# EAGLE library part MAX2634 (library IC_Linear)
Low-Noise Automotive (RKE) Amplifier Reference Datasheet <https://datasheets.maximintegrated.com/en/ds/MAX2634.pdf>
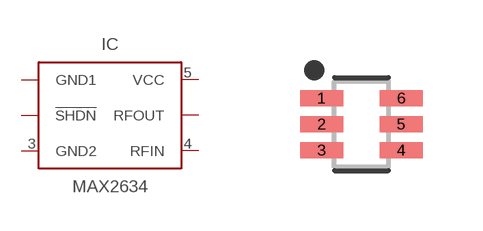
[diagram p8: symbol with the pads of SOT65P217X110-6N; footprint SOT65P217X110-6N]

Designator prefix IC

## MAX2634 (CATEGORY: Amplifier; DESCRIPTION: Low-Noise Automotive Amplifier; MANUFACTURER: Maxim Integrated; MPN: MAX2634AXT+T; OPERATING_TEMP: -40°C to +125°C; PART_STATUS: Active; ROHS_COMPLIANT: ROHS3 Compliant; SERIES: MAX2634; SUB-CATEGORY: RF; VALUE: MAX2634)  [SOT65P217X110-6N]
1  GND1  in
2  !SHDN  in
3  GND2  pas
4  RFIN  pas
5  VCC
6  RFOUT  out

## Footprint SOT65P217X110-6N (pad centres in mm)
6-SOT23, 0.65 mm pitch, 2.18 mm span, 2.00 X 1.25 X 1.10 mm body 6-pin SOT23 package with 0.65 mm pitch, 2.18 mm span with body size 2.00 X 1.25 X 1.10 mm
smd 1.077 x 0.4: 1 -0.996,0.65; 2 -0.996,0; 3 -0.996,-0.65; 4 0.996,-0.65; 5 0.996,0; 6 0.996,0.65